# Altium schematic symbol library TPSM365.SchLib: 1 symbol
Pins are listed as number, name and electrical type; pins without a type are passive.

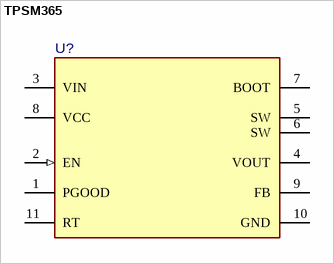
[diagram p0: symbol TPSM365]

## TPSM365
designator U?, comment TPSM365R6FRDNR  (value not drawn)
3 V to 65 V Input, 1 V to 13 V Output, 600-mA Synchronous Buck Converter Power Module in a HotRod™ QFN Package
pins: 1 PGOOD (oc), 2 EN (in), 3 VIN (power), 4 VOUT (power), 5 SW, 6 SW, 7 BOOT, 8 VCC (power), 9 FB, 10 GND (power), 11 RT